# Altium schematic symbol library conn-1x1_0.Schlib: 1 symbol
Pins are listed as number, name and electrical type; pins without a type are passive.

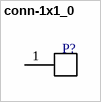
[diagram p0: symbol conn-1x1_0]

## conn-1x1_0
designator P?  (value not drawn)
Pad, 1x1, 8mm
pins: 1 P